# Altium schematic symbol library PinHeader1x6.SchLib: 1 symbol
Pins are listed as number, name and electrical type; pins without a type are passive.

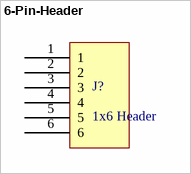
[diagram p0: symbol 6-Pin-Header]

## 6-Pin-Header
designator J?, comment 1x6 Header
Manufacturer Part Number: SSQ-106-03-T-S
footprint PCBComponent_1
pins: 1, 2, 3, 4, 5, 6